# EAGLE library part LMR14006 (library Regulator)
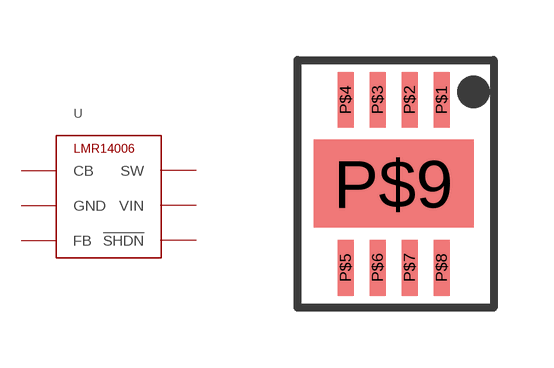
[diagram p3: symbol with the pads of DFN-8(4X4); footprint DFN-8(4X4)]

Designator prefix U

## LMR14006  [DFN-8(4X4)]
P$1  !SHDN!
P$2  CB
P$3  FB
P$4  GND
P$5  SW
P$6  VIN

## Footprint DFN-8(4X4) (pad centres in mm)
smd 0.4 x 1.4: P$1 3.7,3.6; P$2 2.9,3.6; P$3 2.1,3.6; P$4 1.3,3.6; P$5 1.3,-0.6; P$6 2.1,-0.6; P$7 2.9,-0.6; P$8 3.7,-0.6
smd 4 x 2.2: P$9 2.5,1.5